# Altium schematic symbol library USBC.SchLib: 1 symbol
Pins are listed as number, name and electrical type; pins without a type are passive.

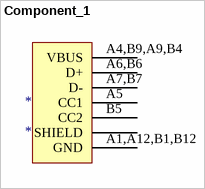
[diagram p0: symbol Component_1]

## Component_1
designator *
pins: ?1 SHIELD, A1,A12,B1,B12 GND, A4,B9,A9,B4 VBUS, A5 CC1, A6,B6 D+, A7,B7 D-, B5 CC2